# Altium footprint library RoboHospitalar.PcbLib: 30 footprints (part 2 of 2)
Each footprint in its own frame and in the unit in brackets; x right, y up, seen from the top. Pads: shape width x height; smd on the part's side, far side on the other; paste and mask are expansions set on the pad; w line width, h text height; cw(c..) or ccw(c..) is an arc to the next point about the centre after c.
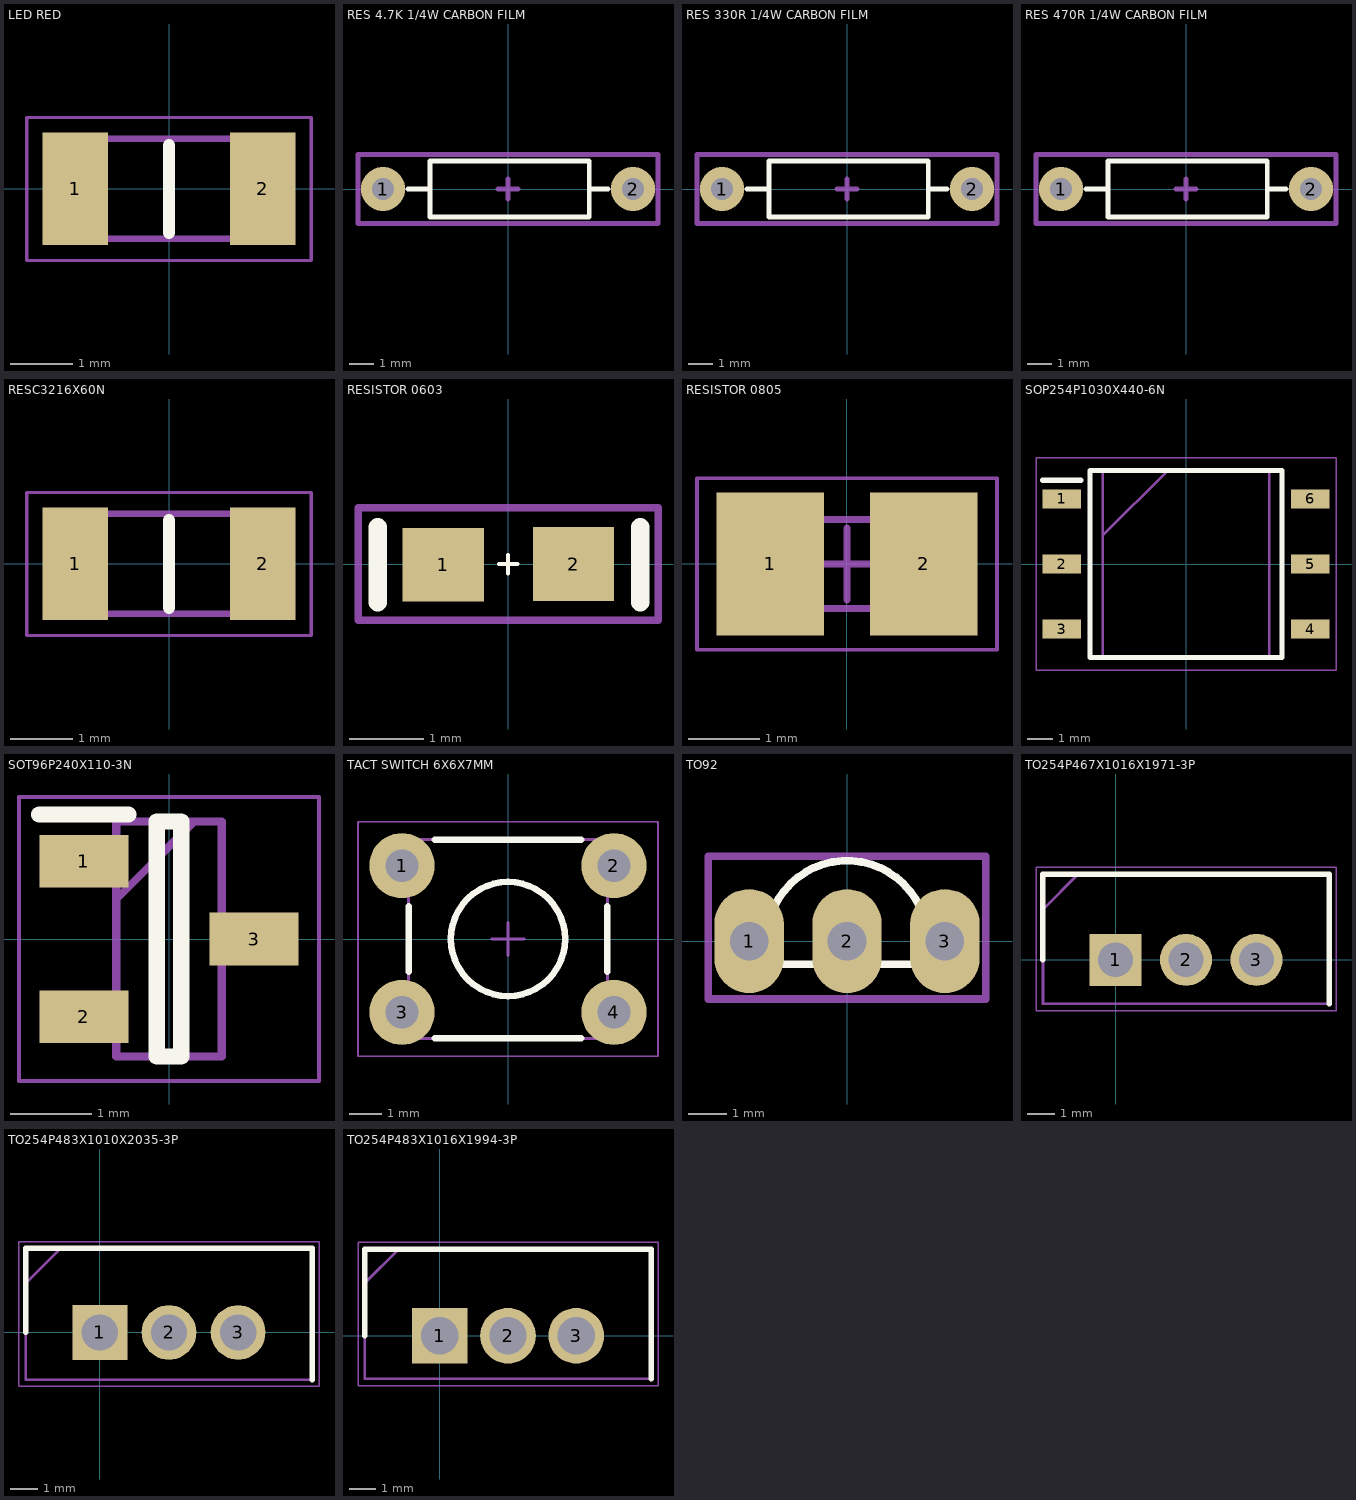
[diagram p1: the footprints below, top view; thin cyan lines are the x and y axes]

## LED RED [mm]
pads (2):
  rect 1.05x1.8 smd: 1(-1.5,0) 2(1.5,0)
Top Overlay:
  lines w0.2: 0,-0.7 0,0.7
Mechanical 13:
  lines w0.1: -1.575,-0.8 1.575,-0.8 1.575,0.8 -1.575,0.8 -1.575,-0.8
Mechanical 15:
  lines w0.05: -2.275,-1.15 -2.275,1.143 -2.032,1.143 -1.138,1.143 1.137,1.143 2.032,1.143 2.275,1.143 2.275,-1.15 -2.275,-1.15
3D body "LED 0603 APT1608 RED.STEP": height 0.75, standoff 0, extent -0.787,-0.425 0.813,0.375

## RES 4.7K 1/4W CARBON FILM [mm]
pads (2):
  round 1.8 hole 0.9: 1(-5.08,0) 2(5.08,0)
Top Overlay:
  lines w0.2: -4.064,0 -3.175,0 ; 3.302,0 4.064,0 ; -3.175,-1.143 -3.175,1.143 3.302,1.143 3.302,-1.143 -3.175,-1.143
Mechanical 15:
  lines w0.2: -0.4,0 0.4,0 ; 0,-0.4 0,0.4 ; -6.096,-1.4 6.096,-1.4 6.096,1.4 -6.096,1.4 -6.096,-1.4
Mechanical 29:
  text "1" at -3.937,-1.016 h0.5
  text ".Designator" at -5.9,1.8 h0.5
3D body "RES 1K .25W CARBON FILM.STEP": height 3.27, standoff -2.02, extent -5.473,-1.27 5.474,1.27

## RES 330R 1/4W CARBON FILM [mm]
pads (2):
  round 1.8 hole 0.9: 1(-5.08,0) 2(5.08,0)
Top Overlay:
  lines w0.2: -4.064,0 -3.175,0 ; 3.302,0 4.064,0 ; -3.175,-1.143 -3.175,1.143 3.302,1.143 3.302,-1.143 -3.175,-1.143
Mechanical 15:
  lines w0.2: -0.4,0 0.4,0 ; 0,-0.4 0,0.4 ; -6.096,-1.4 6.096,-1.4 6.096,1.4 -6.096,1.4 -6.096,-1.4
Mechanical 29:
  text "1" at -3.937,-1.016 h0.5
  text ".Designator" at -5.9,1.8 h0.5
3D body "RES 470R .25W CARBON FILM.STEP": height 3.27, standoff -1.27, extent -5.473,-1.27 5.474,1.27

## RES 470R 1/4W CARBON FILM [mm]
pads (2):
  round 1.8 hole 0.9: 1(-5.08,0) 2(5.08,0)
Top Overlay:
  lines w0.2: -4.064,0 -3.175,0 ; 3.302,0 4.064,0 ; -3.175,-1.143 3.302,-1.143 3.302,1.143 -3.175,1.143 -3.175,-1.143
Mechanical 15:
  lines w0.2: -0.4,0 0.4,0 ; 0,-0.4 0,0.4 ; -6.096,-1.4 -6.096,1.4 6.096,1.4 6.096,-1.4 -6.096,-1.4
Mechanical 29:
  text ".Designator" at -5.9,1.8 h0.5
  text "1" at -3.937,-1.016 h0.5
3D body "RES 470R .25W CARBON FILM.STEP": height 3.27, standoff -1.27, extent -5.473,-1.27 5.474,1.27

## RESC3216X60N [mm]
pads (2):
  rect 1.05x1.8 smd: 1(-1.5,0) 2(1.5,0)
Top Overlay:
  lines w0.2: 0,-0.7 0,0.7
Mechanical 13:
  lines w0.1: -1.575,-0.8 1.575,-0.8 1.575,0.8 -1.575,0.8 -1.575,-0.8
Mechanical 15:
  lines w0.05: -2.275,-1.15 -2.275,1.143 -2.032,1.143 -1.138,1.143 1.137,1.143 2.032,1.143 2.275,1.143 2.275,-1.15 -2.275,-1.15
3D body "CRCW12064K70FKEA.stp": height 0.6, standoff 0, extent -1.575,-0.8 1.575,0.8

## RESISTOR 0603 [mm] "RES 5% 0603"
height 0.025
pads (2):
  rect 1.1x1 smd: 1(-0.877,-0.011) 2(0.889,0)
Top Overlay:
  lines w0.051: -0.127,0 0.127,0 ; 0,-0.127 0,0.127
  lines w0.254: -1.766,-0.519 -1.766,0.497 ; 1.79,-0.519 1.79,0.497
Mechanical 15:
  lines w0.102: -2.032,-0.762 2.032,-0.762 2.032,0.762 -2.032,0.762 -2.032,-0.762
3D body "SW3dPS-0603 SMD Resistor.STEP": height 0.3, standoff 0, extent -0.8,-0.4 0.8,0.4

## RESISTOR 0805 [mm] "Chip Resistor, 2-Leads, Body 2,00x1,25mm, IPC Low Density"
height 0.6
pads (2):
  rect 1.5x2 smd: 1(-1.075,0) 2(1.075,0)
Bottom Overlay:
  lines w0.2: -0.2,-0.6 0.2,-0.6 ; -0.2,0.6 0.2,0.6
Mechanical 13:
  lines w0.1: -1,-0.625 1,-0.625 1,0.625 -1,0.625 -1,-0.625
Mechanical 15:
  lines w0.05: -2.1,-1.2 2.1,-1.2 2.1,1.2 -2.1,1.2 -2.1,-1.2
  lines w0.1: -0.5,0 0.5,0 ; 0,-0.5 0,0.5
3D body "RESC2012X06M.step": height -0.5, standoff -1.1, extent -1,-0.625 1,0.625

## SOP254P1030X440-6N [mm]
pads (6):
  rect 1.5x0.75 smd: 1(-4.85,2.54) 2(-4.85,0) 3(-4.85,-2.54) 4(4.85,-2.54) 5(4.85,0) 6(4.85,2.54)
Top Overlay:
  lines w0.2: -5.6,3.265 -4.1,3.265 ; -3.75,-3.65 3.75,-3.65 3.75,3.65 -3.75,3.65 -3.75,-3.65
Mechanical 13:
  lines w0.1: -3.25,1.11 -0.71,3.65 ; -3.25,-3.65 3.25,-3.65 3.25,3.65 -3.25,3.65 -3.25,-3.65
Mechanical 15:
  lines w0.05: -5.85,-4.15 5.85,-4.15 5.85,4.15 -5.85,4.15 -5.85,-4.15
3D body "4N25-X007T.stp": height 4.4, standoff 0, extent -5.15,-3.65 5.15,3.65

## SOT96P240X110-3N [mm]
pads (3):
  rect 1.1x0.65 smd: 1(-1.05,0.96) 2(-1.05,-0.96) 3(1.05,0)
Top Overlay:
  lines w0.2: -1.6,1.535 -0.5,1.535 ; -0.15,-1.45 -0.15,1.45 0.15,1.45 0.15,-1.45 -0.15,-1.45
Mechanical 13:
  lines w0.1: -0.65,0.49 0.31,1.45 ; -0.65,-1.45 -0.65,1.45 0.65,1.45 0.65,-1.45 -0.65,-1.45
Mechanical 15:
  lines w0.05: -1.85,-1.75 -1.85,1.75 1.85,1.75 1.85,-1.75 -1.85,-1.75
3D body "BC817-25-7-F.stp": height 1.1, standoff 0, extent -1.2,-1.45 1.2,1.45

## TACT SWITCH 6X6X7MM [mm] "Tactile Switch 6x6x7mm"
height 7
pads (4):
  round 2 hole 1: 1(-3.25,2.25) 2(3.25,2.25) 3(-3.25,-2.25) 4(3.25,-2.25)
Top Overlay:
  circle w0.2: c0,0 r1.75
  lines w0.2: -3.05,-1 -3.05,1 ; -2.25,-3.05 2.25,-3.05 ; -2.25,3.05 2.25,3.05 ; 3.05,-1 3.05,1
Mechanical 13:
  circle w0.1: c0,0 r1.75
  lines w0.1: -3.05,-3.05 -3.05,3.05 3.05,3.05 3.05,-3.05 -3.05,-3.05
Mechanical 15:
  lines w0.05: -4.6,-3.6 4.6,-3.6 4.6,3.6 -4.6,3.6 -4.6,-3.6
  lines w0.1: -0.5,0 0.5,0 ; 0,-0.5 0,0.5
Mechanical 29:
  text ".Designator" at 0,0 h2
3D body "TACT SWITCH 7MM.STEP": height 7, standoff -3.5, extent -3.95,-3.1 3.95,3.1

## TO92 [mm]
pads (3):
  oval 1.8x2.7 hole 1: 1(-2.54,0) 2(0,0) 3(2.54,0)
Top Overlay:
  lines w0.2: -2,-0.6 cw(c0,0) 2,-0.6 -2,-0.6
Mechanical 15:
  lines w0.1: -0.2,0.35 0.2,0.35 ; 0,0.15 0,0.55
  lines w0.2: -3.6,-1.5 -3.6,2.2 3.6,2.2 3.6,-1.5 -3.6,-1.5
Mechanical 29:
  text "1" at -3.2,1.4 h0.5
  text ".Designator" at -3.4,2.6 h0.5
3D body "TO92.STEP": height 6.83, standoff -1.9, extent -2.74,-0.568 2.74,2.04

## TO254P467X1016X1971-3P [mm]
pads (3):
  rect 1.875x1.875 hole 1.25: 1(0,0)
  round 1.875 hole 1.25: 2(2.54,0) 3(5.08,0)
Top Overlay:
  lines w0.2: -2.615,0 -2.615,3.085 7.695,3.085 7.695,-1.585
Mechanical 13:
  lines w0.1: -2.615,1.815 -1.345,3.085 ; -2.615,-1.585 7.695,-1.585 7.695,3.085 -2.615,3.085 -2.615,-1.585
Mechanical 15:
  lines w0.05: -2.865,-1.835 7.945,-1.835 7.945,3.335 -2.865,3.335 -2.865,-1.835
3D body "LM317.stp": height 18.76, standoff -17.4, extent -2.54,-1.585 7.62,3.085

## TO254P483X1010X2035-3P [mm]
pads (3):
  rect 2.01x2.01 hole 1.34: 1(0,0)
  round 2.01 hole 1.34: 2(2.54,0) 3(5.08,0)
Top Overlay:
  lines w0.2: -2.725,0 -2.725,3.095 7.805,3.095 7.805,-1.735
Mechanical 13:
  lines w0.1: -2.725,1.825 -1.455,3.095 ; -2.725,-1.735 7.805,-1.735 7.805,3.095 -2.725,3.095 -2.725,-1.735
Mechanical 15:
  lines w0.05: -2.975,-1.985 8.055,-1.985 8.055,3.345 -2.975,3.345 -2.975,-1.985
3D body "TIP41CG.stp": height 18.56, standoff -17.79, extent -2.508,-1.735 7.588,3.095

## TO254P483X1016X1994-3P [mm]
pads (3):
  rect 2.07x2.07 hole 1.38: 1(0,0)
  round 2.07 hole 1.38: 2(2.54,0) 3(5.08,0)
Top Overlay:
  lines w0.2: -2.795,0 -2.795,3.225 7.875,3.225 7.875,-1.605
Mechanical 13:
  lines w0.1: -2.795,1.955 -1.525,3.225 ; -2.795,-1.605 -2.795,3.225 7.875,3.225 7.875,-1.605 -2.795,-1.605
Mechanical 15:
  lines w0.05: -3.045,-1.855 -3.045,3.475 8.125,3.475 8.125,-1.855 -3.045,-1.855
3D body "IRFZ44NPBF.stp": height 18.86, standoff -17.4, extent -2.54,-1.605 7.62,3.225